# Altium footprint library THU VIEN.PcbLib: 20 footprints (part 1 of 2)
Each footprint in its own frame and in the unit in brackets; x right, y up, seen from the top. Pads: shape width x height; smd on the part's side, far side on the other; paste and mask are expansions set on the pad; w line width, h text height; cw(c..) or ccw(c..) is an arc to the next point about the centre after c.
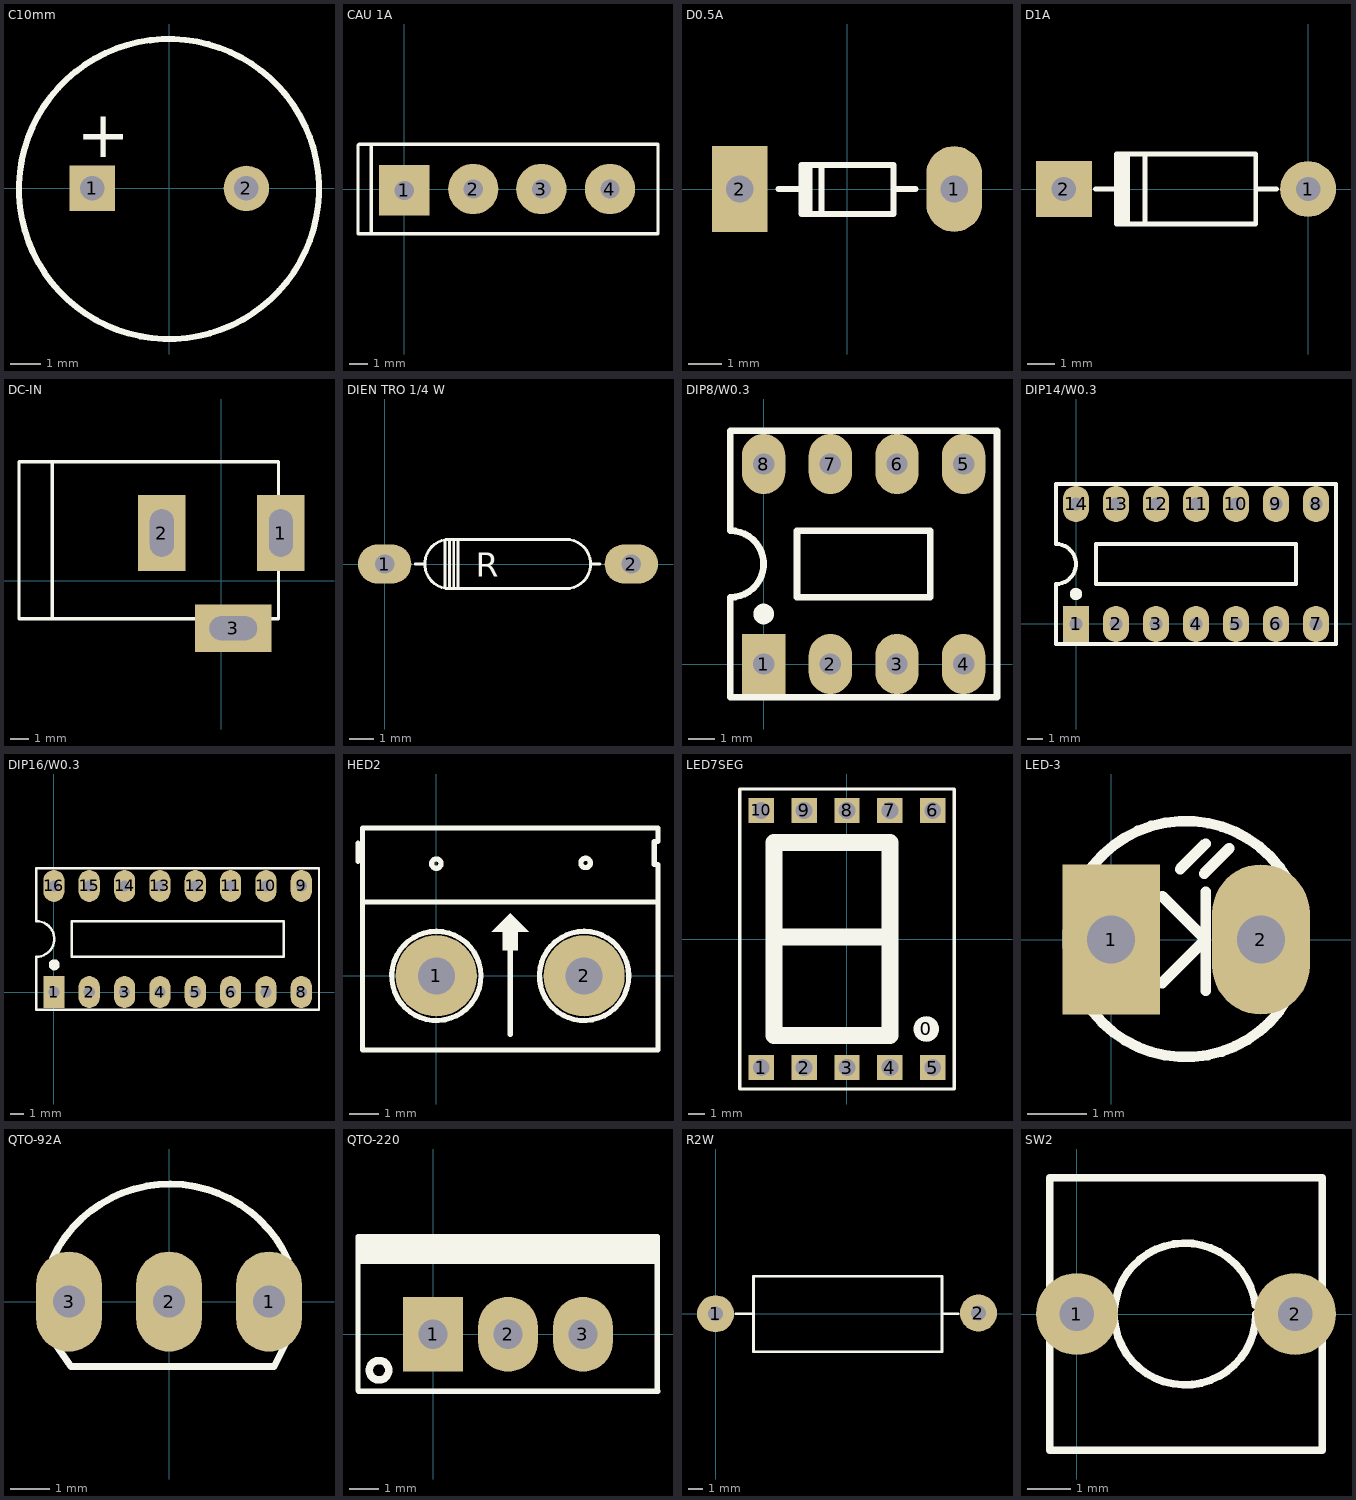
[diagram p0: the footprints below, top view; thin cyan lines are the x and y axes]

## C10mm [mm]
pads (2):
  rect 1.5x1.5 hole 0.8: 1(-2.54,0)
  round 1.5 hole 0.8: 2(2.54,0)
Top Overlay:
  lines w0.203: 3.591,3.365 ccw(c-0.008,-0.022) 3.623,3.33
  text "+" at -3.048,1.016 h1.52
3D body "User Library-Capacitor Radial Electrolitic 500-1000x2000.step": height 20.01, standoff -2.7, extent -5,-5 4.967,5

## CAU 1A [mil] "CAU 1A DET"
height 800
pads (4):
  rect 110x110 hole 42: 1(0,-2)
  round 110 hole 42: 2(151,1) 3(300,1) 4(450,1)
Top Overlay:
  lines w7: -72,-95 -72,99 ; -101,-97 555,-97 555,99 -99,99 -101,97 -101,-97
3D body "SW3dPS-KBPM.STEP": height 453.36, standoff -499.4, extent -61.99,-90 511.99,107.24

## D0.5A [mil] "Diode muoi, W 80mil, L 300mil"
height 80
pads (2):
  oval 65x100 hole 32: 1(125,0)
  rect 65x100 hole 32: 2(-125,0)
Top Overlay:
  rectangle: -55,-30 -40,25
  lines w7: -80,0 -53,0 ; -30,-29 -30,28 ; 54,0 80,0 ; -53,-29 -53,28 54,28 54,-29 -53,-29
3D body "SW3dPS-1N4148.STEP": height 61.22, standoff -50, extent -108.5,-32.96 108.5,32

## D1A [mil] "Diode 1A, W 100mil, L 350mil"
height 100
pads (2):
  round 80 hole 35: 1(0,0)
  rect 80x80 hole 35: 2(-350,0)
Top Overlay:
  rectangle: -275,-50 -255,50
  lines w7: -305,0 -275,0 ; -275,-16 -275,0 ; -275,21 -275,0 ; -234,-50 -234,47 ; -75,0 -45,0 ; -275,0 -275,50 -75,50 -75,-50 -275,-50 -275,0
3D body "SW3dPS-do_35.STEP": height 84.5, standoff -100, extent -386.49,-33 34.49,36

## DC-IN [mil] "Jac DC input"
height 200
pads (3):
  rect 100x160 hole 50 slot 100 at 90 deg: 1(125,100) 2(-125,100)
  rect 160x100 hole 50 slot 100 at 0 deg: 3(25,-100)
Top Overlay:
  lines w7: -355,-80 -355,250 ; -425,-80 120,-80 120,250 -425,250 -425,-80
3D body "SW3dPS-dc range - dc connector[4840.2201].STEP": height 433.67, standoff -137.2, extent -410.35,-105.12 134,269.12

## DIEN TRO 1/4 W [mm]
pads (2):
  oval 2.2x1.6 hole 0.8: 1(0,0) 2(10.16,0)
Top Overlay:
  lines w0.12: 1.257,0 1.651,0 ; 2.489,-0.978 2.489,0.978 ; 2.591,1.016 7.468,1.016 cw(c7.468,0) 7.468,-1.016 2.667,-1.016 cw(c2.667,0) 2.667,1.016 ; 2.68,-1.016 2.667,-1.003 2.667,1.003 2.68,1.016 ; 2.845,-1.016 2.845,1.016 ; 3.023,-1.003 3.023,0.991 ; 8.484,0 8.877,0
  text "R" at 3.746,-0.521 h1
3D body "SW3dPS-RESISTOR, 0.25 W, 0.4 IN LEAD PITCH.STEP": height 2.93, standoff -2.54, extent -0.305,-1.156 10.465,1.156

## DIP8/W0.3 [mil] "8 PIN, W 300mil, Pin to pin 100mil"
height 100
pads (8):
  rect 65x90 hole 32: 1(0,0)
  oval 65x90 hole 32: 2(100,0) 3(200,0) 4(300,0) 5(300,300) 6(200,300) 7(100,300) 8(0,300)
Top Overlay:
  circle w15: c0,75 r8
  lines w10: -50,200 cw(c-50,150) -50,100 -50,-50 350,-50 350,350 -50,350 -50,201 ; 50,100 250,100 250,200 50,200 50,100
3D body "SW3dPS-DIP8-CER.STEP": height 201.25, standoff -129.47, extent -50,-40 350,336.4

## DIP14/W0.3 [mil] "14PIN, W 300mil, Pin to pin 100mil"
height 100
pads (14):
  rect 65x90 hole 32: 1(0,0)
  oval 65x90 hole 32: 2(100,0) 3(200,0) 4(300,0) 5(400,0) 6(500,0) 7(600,0) 8(600,300) 9(500,300) 10(400,300) 11(300,300) 12(200,300) 13(100,300) 14(0,300)
Top Overlay:
  circle w15: c0,75 r8
  lines w10: -50,200 cw(c-50,150) -50,100 -50,-50 650,-50 650,350 -50,350 -50,201 ; 50,100 550,100 550,200 50,200 50,100
3D body "SW3DPS-DIP-14-DEFAULT.STEP": height 145.48, standoff -129.32, extent -69.99,-12.47 680.01,302.49

## DIP16/W0.3 [mil] "16 PIN, W 300mil, Pin to pin 100mil"
height 100
pads (16):
  rect 60x90 hole 31.5: 1(0,0)
  oval 60x90 hole 31.5: 2(100,0) 3(200,0) 4(300,0) 5(400,0) 6(500,0) 7(600,0) 8(700,0) 9(700,300) 10(600,300) 11(500,300) 12(400,300) 13(300,300) 14(200,300) 15(100,300) 16(0,300)
Top Overlay:
  circle w15: c1,77 r8
  lines w7: -50.38,100.05 ccw(c-48.69,150.02) -50,200 ; -50,100 -50,-50 750,-50 750,350 -49,350 -50,349 ; -50,201 -50,350 ; 50,100 50,200 650,200 650,100 50,100
3D body "SW3dPS-DIP 16 _ socket 214.STEP": height 299.42, standoff -131.12, extent -51.7,-57.39 751.7,356

## HED2 [mil] "Header 2, 2 pin, hight 300mil, Pin to Pin 200, Colour Green"
height 300
pads (2):
  round 110 hole 50: 1(0,0) 2(200,0)
Top Overlay:
  circle w7: c202,153 r6.4
  circle w7: c0,152 r6.4
  region: 100,85 75,60 90,60 90,35 110,35 110,60 125,60
  lines w7: -106,155 -106,180 ; -98,100 299,100 ; 38.83,46.23 ccw(c0,0) 40.11,45.12 ; 100,-79 100,72 ; 238.74,46.3 ccw(c200,0) 240.11,45.12 ; -100,-100 -100,50 -100,200 300,200 300,182 295,182 295,151 300,151 300,-100 -100,-100
3D body "SW3dPS-KRM2.STEP": height 393.7, standoff -157.48, extent -91.85,-140 301.85,155.28

## LED7SEG [mm] "LED7SEG"
pads (11):
  round 1.524 on Top Overlay: 0(4.724,-5.334)
  rect 1.5x1.5 hole 1: 1(-5.055,-7.62) 2(-2.515,-7.62) 3(0.025,-7.62) 4(2.565,-7.62) 5(5.105,-7.62) 6(5.105,7.62) 7(2.565,7.62) 8(0.025,7.62) 9(-2.515,7.62) 10(-5.055,7.62)
Top Overlay:
  lines w0.2: -6.325,-8.89 6.375,-8.89 6.375,8.89 -6.325,8.89 -6.325,-8.89
  lines w1: -4.166,0.127 2.565,0.127 ; -4.293,-5.715 -4.293,5.715 2.565,5.715 2.565,-5.715 -4.293,-5.715
3D body "SW3DPS-7SEGMENT DISPLAY.STEP": height 8.03, standoff -3.97, extent -6.35,-9.525 6.35,9.525

## LED-3 [mil] "LED 2 PIN, 3ly Only colour"
height 300
pads (2):
  rect 65x100 hole 32: 1(0,0)
  oval 65x100 hole 32: 2(100,0)
Top Overlay:
  lines w7: 34,-29 63,0 34,29 ; 46,47 63,64 ; 62,44 79,61 ; 63,-34 63,32 ; 117.92,-39.35 117.92,39.84
  lines w7.01: 117.57,-39.74 cw(c49.8,0.35) 117.72,40.19
3D body "SW3DPS-LED DIP 3MM-DEFAULT.STEP": height 217.14, standoff -117.51, extent -12.99,-74.8 124.8,74.81

## QTO-92A [mil] "TO-92"
height 200
pads (3):
  oval 66x100 hole 32: 1(100,0) 2(0,0) 3(-100,0)
Top Overlay:
  lines w7: -116.52,43.21 cw(c0.97,-12.43) 119.08,41.88 ; -115.34,-40.24 -98,-65 105,-65 118,-39
3D body "SW3dPS-TO92.STEP": height 245.04, standoff -199.79, extent -110,-60.56 107.73,100

## QTO-220 [mil] "TO-220 - 1-2-3"
height 200
pads (3):
  rect 80x100 hole 39: 1(0,0)
  oval 80x100 hole 39: 2(100,0) 3(200,0)
Top Overlay:
  circle w10: c-72.03,-48 r12.97
  rectangle: -99,94 300,130
  lines w7: 298,107 299,93 ; -100,-75 -100,130 299,130 299,-75 300,-76 -76,-76 -99,-76 -100,-75
3D body "SW3dPS-TO220AB.STEP": height 754.72, standoff -400, extent -120.73,-84.65 320.73,100

## R2W [mm] "R2W, 2 pin, 700mil"
height 5.08
pads (2):
  round 2.5 hole 1: 1(0,0) 2(17.755,0.051)
Top Overlay:
  lines w0.178: 1.372,0 2.565,0 ; 15.316,0 16.383,0 ; 2.565,0 2.565,-2.565 15.291,-2.565 15.291,2.54 2.565,2.54 2.565,0
3D body "SW3dPS-AXIAL_RESISTOR(3W).STEP": height 8.3, standoff -2, extent -2.362,-3.327 19.838,3.273

## SW2 [mm] "SW button 2pin, 250x 250 mil"
height 2.54
pads (2):
  round 1.905 hole 0.8: 1(0,0) 2(5.08,0)
Top Overlay:
  lines w0.178: 4.157,0.21 ccw(c2.519,0) 4.17,0 ; -0.635,-3.175 -0.635,3.175 5.715,3.175 5.715,-3.175 -0.635,-3.175